# Altium footprint library CFP28P65_1020X780X200L75X30N.PcbLib: 1 footprints
Each footprint in its own frame and in the unit in brackets; x right, y up, seen from the top. Pads: shape width x height; smd on the part's side, far side on the other; paste and mask are expansions set on the pad; w line width, h text height; cw(c..) or ccw(c..) is an arc to the next point about the centre after c.
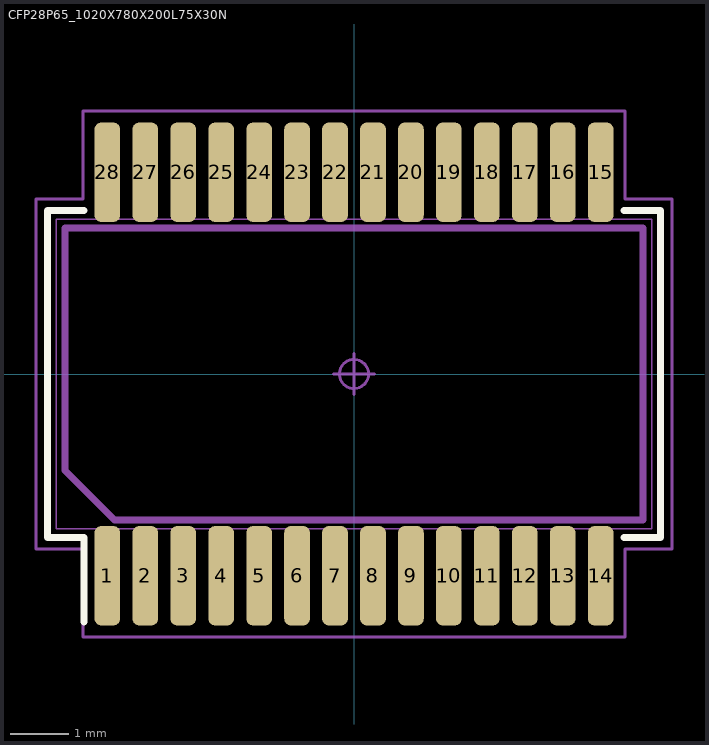
[diagram p0: the footprint, top view; thin cyan lines are the x and y axes]

## CFP28P65_1020X780X200L75X30N [mm] "Ceramic Flat Pack (CFP), 0.65 mm pitch; 28 pin, 10.20 mm L X 5.30 mm W X 2.00 mm H body"
height 2
pads (28):
  rrect50% 0.44x1.7 smd: 1(-4.225,-3.455) 2(-3.575,-3.455) 3(-2.925,-3.455) 4(-2.275,-3.455) 5(-1.625,-3.455) 6(-0.975,-3.455) 7(-0.325,-3.455) 8(0.325,-3.455) 9(0.975,-3.455) 10(1.625,-3.455) 11(2.275,-3.455) 12(2.925,-3.455) 13(3.575,-3.455) 14(4.225,-3.455) 15(4.225,3.455) 16(3.575,3.455) 17(2.925,3.455) 18(2.275,3.455) 19(1.625,3.455) 20(0.975,3.455) 21(0.325,3.455) 22(-0.325,3.455) 23(-0.975,3.455) 24(-1.625,3.455) 25(-2.275,3.455) 26(-2.925,3.455) 27(-3.575,3.455) 28(-4.225,3.455)
Top Overlay:
  lines w0.12: -4.625,-4.245 -4.625,-2.8 -5.25,-2.8 -5.25,2.8 -4.625,2.8 ; 4.625,-2.8 5.25,-2.8 5.25,2.8 4.625,2.8
Mechanical 3:
  lines w0.12: -4.95,-1.654 -4.95,2.5 4.95,2.5 4.95,-2.5 -4.104,-2.5 -4.95,-1.654
Mechanical 5:
  lines w0.025: -5.1,-2.65 5.1,-2.65 5.1,2.65 -5.1,2.65 -5.1,-2.65 ; -4.375,-3.9 -4.375,-3.15 -4.075,-3.15 -4.075,-3.9 -4.375,-3.9 ; -4.375,3.15 -4.375,3.9 -4.075,3.9 -4.075,3.15 -4.375,3.15 ; -3.725,-3.9 -3.725,-3.15 -3.425,-3.15 -3.425,-3.9 -3.725,-3.9 ; -3.725,3.15 -3.725,3.9 -3.425,3.9 -3.425,3.15 -3.725,3.15 ; -3.075,-3.9 -3.075,-3.15 -2.775,-3.15 -2.775,-3.9 -3.075,-3.9 ; -3.075,3.15 -3.075,3.9 -2.775,3.9 -2.775,3.15 -3.075,3.15 ; -2.425,-3.9 -2.425,-3.15 -2.125,-3.15 -2.125,-3.9 -2.425,-3.9 ; -2.425,3.15 -2.425,3.9 -2.125,3.9 -2.125,3.15 -2.425,3.15 ; -1.775,-3.9 -1.775,-3.15 -1.475,-3.15 -1.475,-3.9 -1.775,-3.9 ; -1.775,3.15 -1.775,3.9 -1.475,3.9 -1.475,3.15 -1.775,3.15 ; -1.125,-3.9 -1.125,-3.15 -0.825,-3.15 -0.825,-3.9 -1.125,-3.9 ; -1.125,3.15 -1.125,3.9 -0.825,3.9 -0.825,3.15 -1.125,3.15 ; -0.475,-3.9 -0.475,-3.15 -0.175,-3.15 -0.175,-3.9 -0.475,-3.9 ; -0.475,3.15 -0.475,3.9 -0.175,3.9 -0.175,3.15 -0.475,3.15 ; 0.175,-3.9 0.175,-3.15 0.475,-3.15 0.475,-3.9 0.175,-3.9 ; 0.175,3.15 0.175,3.9 0.475,3.9 0.475,3.15 0.175,3.15 ; 0.825,-3.9 0.825,-3.15 1.125,-3.15 1.125,-3.9 0.825,-3.9 ; 0.825,3.15 0.825,3.9 1.125,3.9 1.125,3.15 0.825,3.15 ; 1.475,-3.9 1.475,-3.15 1.775,-3.15 1.775,-3.9 1.475,-3.9 ; 1.475,3.15 1.475,3.9 1.775,3.9 1.775,3.15 1.475,3.15 ; 2.125,-3.9 2.125,-3.15 2.425,-3.15 2.425,-3.9 2.125,-3.9 ; 2.125,3.15 2.125,3.9 2.425,3.9 2.425,3.15 2.125,3.15 ; 2.775,-3.9 2.775,-3.15 3.075,-3.15 3.075,-3.9 2.775,-3.9 ; 2.775,3.15 2.775,3.9 3.075,3.9 3.075,3.15 2.775,3.15 ; 3.425,-3.9 3.425,-3.15 3.725,-3.15 3.725,-3.9 3.425,-3.9 ; 3.425,3.15 3.425,3.9 3.725,3.9 3.725,3.15 3.425,3.15 ; 4.075,-3.9 4.075,-3.15 4.375,-3.15 4.375,-3.9 4.075,-3.9 ; 4.075,3.15 4.075,3.9 4.375,3.9 4.375,3.15 4.075,3.15
Mechanical 7:
  circle w0.05: c0,0 r0.25
  lines w0.05: -0.35,0 0.35,0 ; 0,-0.35 0,0.35 ; -5.45,-3 -4.645,-3 -4.645,-4.505 4.645,-4.505 4.645,-3 5.45,-3 5.45,3 4.645,3 4.645,4.505 -4.645,4.505 -4.645,3 -5.45,3 -5.45,-3
Mechanical 9:
  text "'.Designator'" at -5.715,0 h1
3D body "CFP28P65_1020X780X200L75X30.STEP": height 2, standoff 0, extent -5.1,-3.9 5.1,3.9
3D body: height 1.04, standoff 0, extent -5.45,-4.505 5.45,4.505